# Altium schematic symbol library RES_10R_1206.SchLib: 1 symbol
Pins are listed as number, name and electrical type; pins without a type are passive.

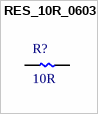
[diagram p0: symbol RES_10R_0603]

## RES_10R_0603
designator R?, comment 10R
Supplier 1: Digi-Key; Supplier Part Number 1: RMCF1206JT10R0CT-ND
footprint RES_10R_1206
pins: 1, 2